# Altium integrated library RUF-Dispositivos-Grales.IntLib: 25 symbols
Pins are listed as number, name and electrical type; pins without a type are passive.

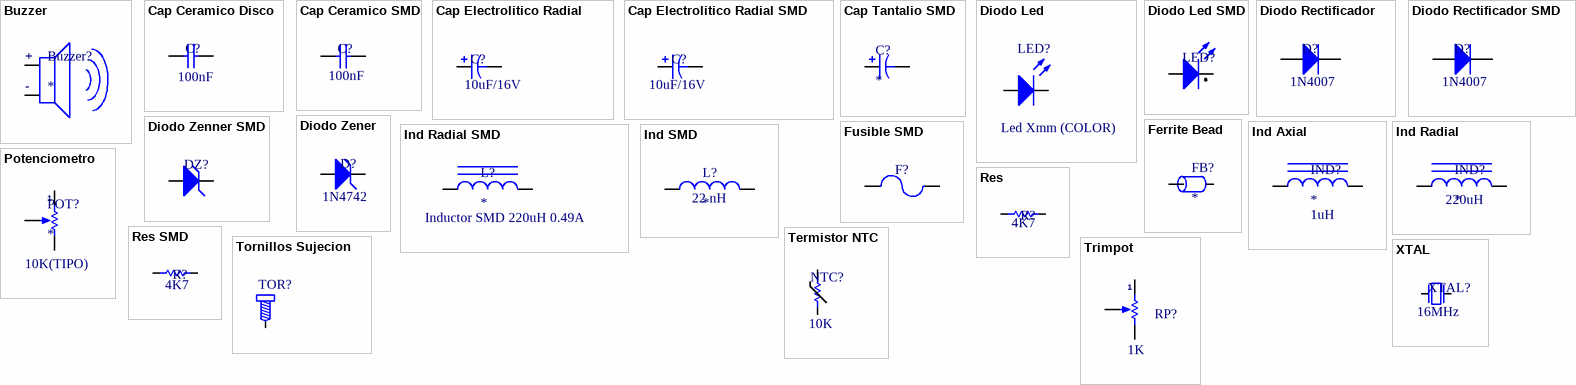
[diagram p0: symbols Buzzer to XTAL]

## Buzzer
designator Buzzer?
Buzzer 5V; FABRICANTE: Generico; CODIGO STI: *; PROVEEDOR: *; VALOR: Buzzer 5V
footprint Buzzer 5mm (Buzzer 5V)
pins: 1 +, 2 -

## Cap Ceramico Disco
designator C?  VALOR: 100nF  (hidden comment: *)
Capacitor Ceramico de Insercion; FABRICANTE: Generico; CODIGO STI: *; PROVEEDOR: *
footprint CAP DISCO 150mil (Capacitor; 2 Leads)
footprint CAP DISCO 200mil (Capacitor; 2 Leads)
pins: 1, 2

## Cap Ceramico SMD
designator C?  VALOR: 100nF  (hidden comment: *)
Cap Ceramico SMD 0805; CODIGO STI: *; PROVEEDOR: *; FABRICANTE: *
footprint C0402 (Chip Capacitor; Body 1.0 x 0.5 mm (LxW typ))
footprint C0603 (Chip Capacitor; Body 1.6 x 0.8 mm (LxW typ))
footprint C0805 (Chip Capacitor; Body 2.0 x 1.2 mm (LxW typ))
footprint C1206 (Chip Capacitor; Body 3.2 x 1.5 mm (LxW typ))
footprint C1210 (Chip Capacitor, Body 3.2x2.5mm, IPC Low Density)
footprint C2220 (Chip Capacitor, Body 5.7x5.0mm, IPC High Density)
pins: 1, 2

## Cap Electrolitico Radial
designator C?  VALOR: 10uF/16V  (hidden comment: *)
Cap Electrolitico de insercion; CODIGO STI: *; PROVEEDOR: *; FABRICANTE: *
footprint CAPR D200 H450 R100 mil
footprint CAPR D250 H450 R100 mil
footprint CAPR D250 H600 R100 mil
footprint CAPR D320 H450 R140 mil
footprint CAPR D320 H630 R140 mil
footprint CAPR D400 H500 R200 mil
footprint CAPR D400 H630 R200 mil
footprint CAPR D400 H800 R200 mil
footprint CAPR D400 H1000 R200 mil
footprint CAPR D500 H800 R200 mil
footprint CAPR D400 H630 R200 mil
footprint CAPR D500 H1000 R200 mil
footprint CAPR D500 H1200 R200 mil
footprint CAPR D500 H1400 R200 mil
footprint CAPR D630 H630 R300 mil
footprint CAPR D630 H800 R300 mil
footprint CAPR D630 H1000 R300 mil
footprint CAPR D630 H1250 R300 mil
footprint CAPR D700 H1400 R300 mil
pins: 1, 2

## Cap Electrolitico Radial SMD
designator C?  VALOR: 10uF/16V  (hidden comment: *)
Capacitor ElectroliticoSMD; CODIGO STI: *; PROVEEDOR: *; FABRICANTE: *
footprint CAP SMD ELECT RAD SIZE B
footprint CAP SMD ELECT RAD SIZE C
footprint CAP SMD ELECT RAD SIZE D
footprint CAP SMD ELECT RAD SIZE D8
footprint CAP SMD ELECT RAD SIZE E
footprint CAP SMD ELECT RAD SIZE F
footprint CAP SMD ELECT RAD SIZE G
pins: 1, 2

## Cap Tantalio SMD
designator C?
Capacitor de tantalio SMD; VALOR: 10uF / 16V; PROVEEDOR: *; CODIGO STI: *; FABRICANTE: *
footprint Cap Tantalio CASE-A (Capacitor, SM Tantalum; Body 3.2 x 1.6 mm (LxW typ))
footprint Cap Tantalio CASE-B (Capacitor, SM Tantalum; Body 3.5 x 2.8 mm (LxW typ))
footprint Cap Tantalio CASE-C (Capacitor, SM Tantalum; Body 6.0 x 3.2 mm (LxW typ))
footprint Cap Tantalio CASE-D (Capacitor, SM Tantalum; Body 7.3 x 4.3 mm (LxW typ))
footprint Cap Tantalio CASE-E (Capacitor, SM Tantalum; Body 7.3 x 6.0 mm (LxW typ))
footprint Cap Tantalio CASE-R (Capacitor, SM Tantalum; Body 2.0 x 1.3 mm (LxW typ))
footprint Cap Tantalio CASE-V (Capacitor, SM Tantalum; Body 7.3 x 4.3 mm (LxW typ))
footprint Cap Tantalio CASE-X (Capacitor, SM Tantalum; Body 7.3 x 4.3 mm (LxW typ))
pins: 1, 2

## Diodo Led
designator LED?  VALOR: Led Xmm (COLOR)  (hidden comment: *)
Led 3mm; CODIGO STI: *; PROVEEDOR: *; FABRICANTE: *
footprint Led 3mm AMARILLO
footprint Led 3mm ROJO
footprint Led 3mm VERDE
footprint Led 5mm AMARILLO
footprint Led 5mm ROJO
footprint Led 5mm VERDE
pins: 1 A, 2 K

## Diodo Led SMD
designator LED?  (value not drawn)
Led SMD 0805; VALOR: LED SMD XXXX (COLOR); PROVEEDOR: *; CODIGO STI: *; FABRICANTE: *
footprint LED 0805 AMARILLO
footprint LED 0805 ROJO
footprint LED 0805 VERDE
footprint LED 1206 AMARILLO
footprint LED 1206 ROJO
footprint LED 1206 VERDE
pins: 1 A, 2 K

## Diodo Rectificador
designator D?  VALOR: 1N4007  (hidden comment: *)
Diodo Rectificador de inserción; PROVEEDOR: *; CODIGO STI: *; FABRICANTE: *
footprint P600
footprint P600_VERTICAL
footprint DO-35
footprint DO-41 (Diode, Axial; Body 5.2 x 2.7 mm (LxDia. max), Lead Dia. 0.86 mm (max))
footprint DO-201 (Diode, Axial; Body 9.5 x 5.6 mm (LxDia. max), Lead Dia. 1.32 mm (max))
footprint DO-41_VERTICAL (Diode, Axial; Body 5.2 x 2.7 mm (LxDia. max), Lead Dia. 0.86 mm (max))
footprint DO-201_VERTICAL
pins: 1 A, 2 K

## Diodo Rectificador SMD
designator D?  VALOR: 1N4007  (hidden comment: *)
Diodo Rectificador; PROVEEDOR: *; CODIGO STI: *; FABRIANTE: *
footprint SOD-80
footprint SOD323-F
footprint DO-214 (Encapsulado SAM/DO-214 para diodo ES1A-J)
pins: 1 A, 2 K

## Diodo Zener
designator D?  VALOR: 1N4742  (hidden comment: *)
Diodo Zener; CODIGO STI: *; PROVEEDOR: *; FABRICANTE: *
footprint DO-41 (Diode, Axial; Body 5.2 x 2.7 mm (LxDia. max), Lead Dia. 0.86 mm (max))
footprint DO-35
pins: 1 A, 2 K

## Diodo Zenner SMD
designator DZ?  (value not drawn)
Diodo zenner SMD; VALOR: *; PROVEEDOR: *; CODIGO STI: *; FABRICANTE: *
footprint SOD-80
pins: 1 A, 2 K

## Ferrite Bead
designator FB?
Ferrite Bead; VALOR: *; PROVEEDOR: *; CODIGO STI: *; FABRICANTE: *
footprint FB 0805
pins: 1, 2

## Fusible SMD
designator F?  (value not drawn)
VALOR: 3A; CODIGO STI: *; PROVEEDOR: *; FABRICANTE: *
footprint FUS0603
pins: 1, 2

## Ind Axial
designator IND?  VALOR: 1uH
Inductor Axial; CODIGO STI: *; PROVEEDOR: *; FABRICANTE: *
footprint IND AXIAL 250mil
pins: 1, 2

## Ind Radial
designator IND?  VALOR: 220uH
Inductor Radial; CODIGO STI: *; PROVEEDOR: *; FABRICANTE: *
footprint INDR 6x8mm
footprint INDR 8x9.5mm
footprint INDR 9x13mm
footprint INDR 12X13mm
footprint IND PULSE LOW PROFILE
pins: 1, 2

## Ind Radial SMD
designator L?  VALOR: Inductor SMD 220uH 0.49A
Inductor Radial SMD; PROVEEDOR: *; CODIGO STI: *; FABRICANTE: *
footprint INDR SMD 7.10x7.80mm
pins: 1, 2

## Ind SMD
designator L?  VALOR: 22 nH
Inductor; CODIGO STI: *; PROVEEDOR: *; FABRICANTE: *
footprint IND0805
footprint IND0603
pins: 1, 2

## Potenciometro
designator POT?  VALOR: 10K(TIPO)
Potenciometro; CODIGO STI: *; PROVEEDOR: *; FABRICANTE: *
footprint POTE HOR
pins: 1 TOP, 2 BOT, 3 TAP

## Res
designator R?  VALOR: 4K7  (hidden comment: *)
Resistor; CODIGO STI: *; PROVEEDOR: *; FABRICANTE: *
footprint RES AXIAL 250mil
footprint RES AXIAL 300mil
footprint RES AXIAL 400mil
footprint RES AXIAL 500mil
footprint RES AXIAL 700mil
pins: 1, 2

## Res SMD
designator R?  VALOR: 4K7  (hidden comment: *)
Res Smd; CODIGO STI: *; PROVEEDOR: *; FABRICANTE: *
footprint R0603 (Chip Capacitor; Body 1.6 x 0.8 mm (LxW typ))
footprint R0402 (Chip Capacitor; Body 1.0 x 0.5 mm (LxW typ))
footprint R0805
footprint R2512
footprint R1206 (Chip Capacitor; Body 3.2 x 1.5 mm (LxW typ))
pins: 1, 2

## Termistor NTC
designator NTC?  VALOR: 10K  (hidden comment: *)
Termistor NTC SMD; PROVEEDOR: *; CODIGO STI: *; FABRICANTE: *
footprint R0805
pins: 1, 2

## Tornillos Sujecion
designator TOR?, comment SUJETADOR  (value not drawn)
Agujero para tornillo ed sujecion ed placa; PROVEEDOR: Bultor; CODIGO STI: *; FABRICANTE: *
footprint TOR_1/8"
footprint TOR_ALEM_M2
footprint TOR_ALEM_M2.5
footprint TOR_ALEM_M3
pins: 1

## Trimpot
designator RP?  VALOR: 1K  (hidden comment: *)
Preset; CODIGO STI: *; PROVEEDOR: *; FABRICANTE: *
footprint Trimpot Multivuelta Horizontal
footprint Trimpot Multivuelta Vertical (Preset Multivuelta de ajuste vertical)
footprint Trimpot Horizontal (Preset Multivuelta de ajuste vertical)
pins: 1 TOP, 2 BOT, 3 TAP
1 alternate drawing of the same symbol

## XTAL
designator XTAL?  VALOR: 16MHz  (hidden comment: *)
Cristal de Cuarzo; FABRICANTE: Generico; PROVEEDOR: *; CODIGO STI: *
footprint XTAL Perfil bajo
footprint XTAL
pins: 1 OSC1, 2 OSC2